# Altium schematic symbol library STM32_F4VX_M.SchLib: 8 symbols
Pins are listed as number, name and electrical type; pins without a type are passive.

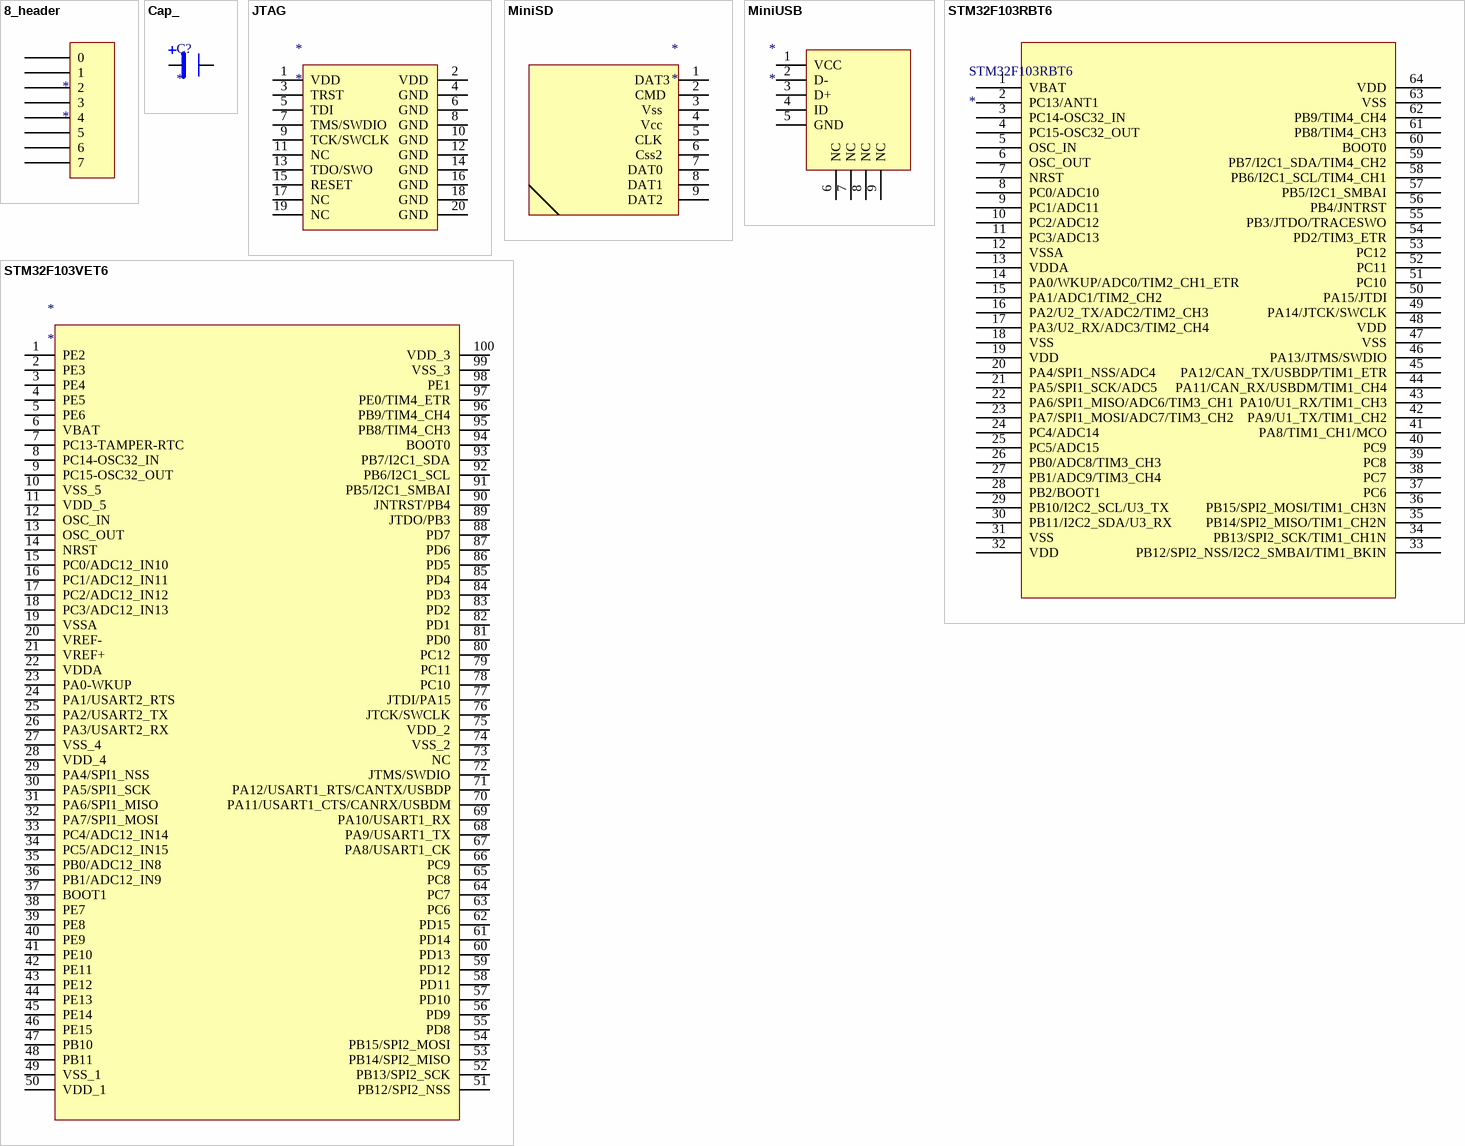
[diagram p0: symbols 8_header to STM32F103VET6]

## 8_header
designator *
footprint HDR1X8 (Connector; Header; 8 Position)
pins: 0, 1, 2, 3, 4, 5, 6, 7

## Cap_
designator C?
footprint RC0603
pins: 1, 2

## JTAG
designator *
pins: 1 VDD, 2 VDD, 3 TRST, 4 GND, 5 TDI, 6 GND, 7 TMS/SWDIO, 8 GND, 9 TCK/SWCLK, 10 GND, 11 NC, 12 GND, 13 TDO/SWO, 14 GND, 15 RESET, 16 GND, 17 NC, 18 GND, 19 NC, 20 GND

## MiniSD
designator *
pins: 1 DAT3, 2 CMD , 3 Vss  , 4 Vcc  , 5 CLK  , 6 Css2  , 7 DAT0  , 8 DAT1  , 9 DAT2  

## MiniUSB
designator *
pins: 1 VCC, 2 D-, 3 D+, 4 ID, 5 GND, 6 NC, 7 NC, 8 NC, 9 NC

## STM32F103RBT6
designator STM32F103RBT6
pins: 1 VBAT, 2 PC13/ANT1, 3 PC14-OSC32_IN, 4 PC15-OSC32_OUT, 5 OSC_IN, 6 OSC_OUT, 7 NRST, 8 PC0/ADC10, 9 PC1/ADC11, 10 PC2/ADC12, 11 PC3/ADC13, 12 VSSA, 13 VDDA, 14 PA0/WKUP/ADC0/TIM2_CH1_ETR, 15 PA1/ADC1/TIM2_CH2, 16 PA2/U2_TX/ADC2/TIM2_CH3, 17 PA3/U2_RX/ADC3/TIM2_CH4, 18 VSS, 19 VDD, 20 PA4/SPI1_NSS/ADC4, 21 PA5/SPI1_SCK/ADC5, 22 PA6/SPI1_MISO/ADC6/TIM3_CH1, 23 PA7/SPI1_MOSI/ADC7/TIM3_CH2, 24 PC4/ADC14, 25 PC5/ADC15, 26 PB0/ADC8/TIM3_CH3, 27 PB1/ADC9/TIM3_CH4, 28 PB2/BOOT1, 29 PB10/I2C2_SCL/U3_TX, 30 PB11/I2C2_SDA/U3_RX, 31 VSS, 32 VDD, 33 PB12/SPI2_NSS/I2C2_SMBAI/TIM1_BKIN, 34 PB13/SPI2_SCK/TIM1_CH1N, 35 PB14/SPI2_MISO/TIM1_CH2N, 36 PB15/SPI2_MOSI/TIM1_CH3N, 37 PC6, 38 PC7, 39 PC8, 40 PC9, 41 PA8/TIM1_CH1/MCO, 42 PA9/U1_TX/TIM1_CH2, 43 PA10/U1_RX/TIM1_CH3, 44 PA11/CAN_RX/USBDM/TIM1_CH4, 45 PA12/CAN_TX/USBDP/TIM1_ETR, 46 PA13/JTMS/SWDIO, 47 VSS, 48 VDD, 49 PA14/JTCK/SWCLK, 50 PA15/JTDI, 51 PC10, 52 PC11, 53 PC12, 54 PD2/TIM3_ETR, 55 PB3/JTDO/TRACESWO, 56 PB4/JNTRST, 57 PB5/I2C1_SMBAI, 58 PB6/I2C1_SCL/TIM4_CH1, 59 PB7/I2C1_SDA/TIM4_CH2, 60 BOOT0, 61 PB8/TIM4_CH3, 62 PB9/TIM4_CH4, 63 VSS, 64 VDD

## STM32F103VET6
designator *
pins: 1 PE2, 2 PE3, 3 PE4, 4 PE5, 5 PE6, 6 VBAT, 7 PC13-TAMPER-RTC, 8 PC14-OSC32_IN, 9 PC15-OSC32_OUT, 10 VSS_5, 11 VDD_5, 12 OSC_IN, 13 OSC_OUT, 14 NRST, 15 PC0/ADC12_IN10, 16 PC1/ADC12_IN11, 17 PC2/ADC12_IN12, 18 PC3/ADC12_IN13, 19 VSSA, 20 VREF-, 21 VREF+, 22 VDDA, 23 PA0-WKUP, 24 PA1/USART2_RTS, 25 PA2/USART2_TX, 26 PA3/USART2_RX, 27 VSS_4, 28 VDD_4, 29 PA4/SPI1_NSS, 30 PA5/SPI1_SCK, 31 PA6/SPI1_MISO, 32 PA7/SPI1_MOSI, 33 PC4/ADC12_IN14, 34 PC5/ADC12_IN15, 35 PB0/ADC12_IN8, 36 PB1/ADC12_IN9, 37 BOOT1, 38 PE7, 39 PE8, 40 PE9, 41 PE10, 42 PE11, 43 PE12, 44 PE13, 45 PE14, 46 PE15, 47 PB10, 48 PB11, 49 VSS_1, 50 VDD_1, 51 PB12/SPI2_NSS, 52 PB13/SPI2_SCK, 53 PB14/SPI2_MISO, 54 PB15/SPI2_MOSI, 55 PD8, 56 PD9, 57 PD10, 58 PD11, 59 PD12, 60 PD13, 61 PD14, 62 PD15, 63 PC6, 64 PC7, 65 PC8, 66 PC9, 67 PA8/USART1_CK, 68 PA9/USART1_TX, 69 PA10/USART1_RX, 70 PA11/USART1_CTS/CANRX/USBDM, 71 PA12/USART1_RTS/CANTX/USBDP, 72 JTMS/SWDIO, 73 NC, 74 VSS_2, 75 VDD_2, 76 JTCK/SWCLK, 77 JTDI/PA15, 78 PC10, 79 PC11, 80 PC12, 81 PD0, 82 PD1, 83 PD2, 84 PD3, 85 PD4, 86 PD5, 87 PD6, 88 PD7, 89 JTDO/PB3, 90 JNTRST/PB4, 91 PB5/I2C1_SMBAI, 92 PB6/I2C1_SCL, 93 PB7/I2C1_SDA, 94 BOOT0, 95 PB8/TIM4_CH3, 96 PB9/TIM4_CH4, 97 PE0/TIM4_ETR, 98 PE1, 99 VSS_3, 100 VDD_3

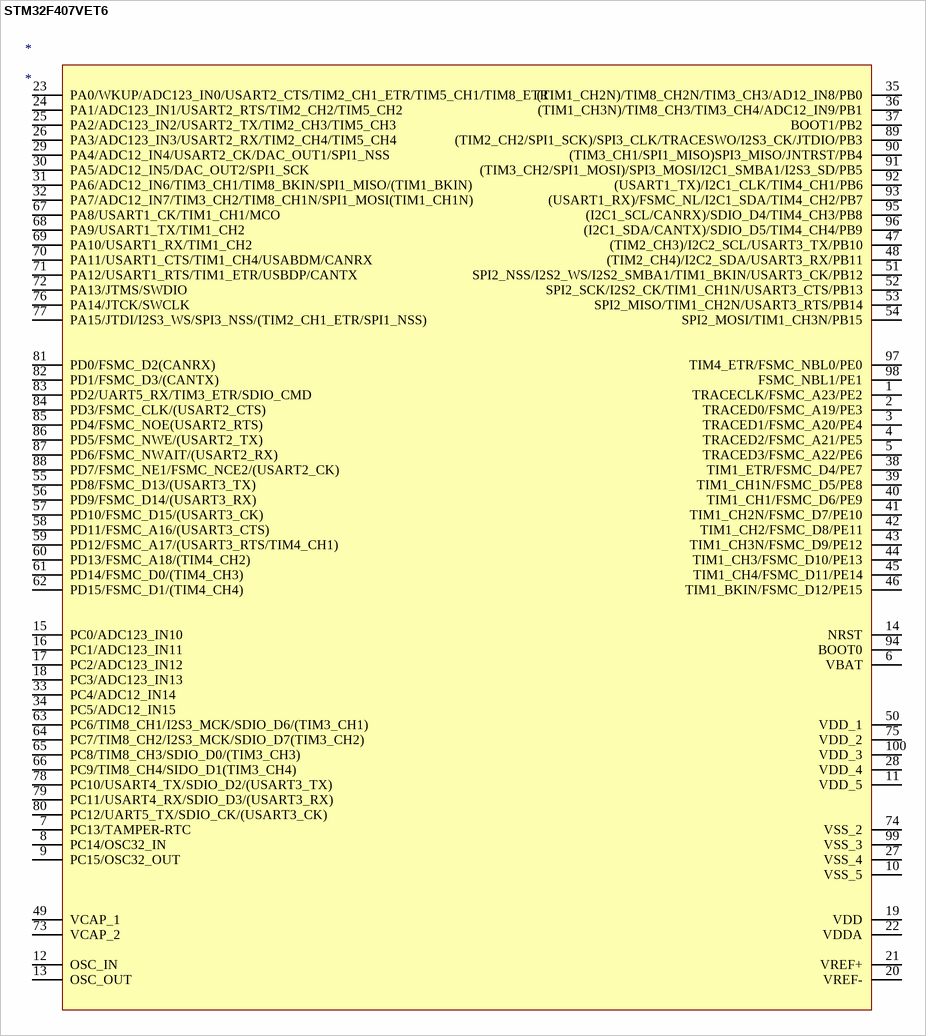
[diagram p1: symbol STM32F407VET6]

## STM32F407VET6
designator *
pins: 1 TRACECLK/FSMC_A23/PE2, 2 TRACED0/FSMC_A19/PE3, 3 TRACED1/FSMC_A20/PE4, 4 TRACED2/FSMC_A21/PE5, 5 TRACED3/FSMC_A22/PE6, 6 VBAT, 7 PC13/TAMPER-RTC, 8 PC14/OSC32_IN, 9 PC15/OSC32_OUT, 10 VSS_5, 11 VDD_5, 12 OSC_IN, 13 OSC_OUT, 14 NRST, 15 PC0/ADC123_IN10, 16 PC1/ADC123_IN11, 17 PC2/ADC123_IN12, 18 PC3/ADC123_IN13, 19 VDD, 20 VREF-, 21 VREF+, 22 VDDA, 23 PA0/WKUP/ADC123_IN0/USART2_CTS/TIM2_CH1_ETR/TIM5_CH1/TIM8_ETR, 24 PA1/ADC123_IN1/USART2_RTS/TIM2_CH2/TIM5_CH2, 25 PA2/ADC123_IN2/USART2_TX/TIM2_CH3/TIM5_CH3, 26 PA3/ADC123_IN3/USART2_RX/TIM2_CH4/TIM5_CH4, 27 VSS_4, 28 VDD_4, 29 PA4/ADC12_IN4/USART2_CK/DAC_OUT1/SPI1_NSS, 30 PA5/ADC12_IN5/DAC_OUT2/SPI1_SCK, 31 PA6/ADC12_IN6/TIM3_CH1/TIM8_BKIN/SPI1_MISO/(TIM1_BKIN), 32 PA7/ADC12_IN7/TIM3_CH2/TIM8_CH1N/SPI1_MOSI(TIM1_CH1N), 33 PC4/ADC12_IN14, 34 PC5/ADC12_IN15, 35 (TIM1_CH2N)/TIM8_CH2N/TIM3_CH3/AD12_IN8/PB0, 36 (TIM1_CH3N)/TIM8_CH3/TIM3_CH4/ADC12_IN9/PB1, 37 BOOT1/PB2, 38 TIM1_ETR/FSMC_D4/PE7, 39 TIM1_CH1N/FSMC_D5/PE8, 40 TIM1_CH1/FSMC_D6/PE9, 41 TIM1_CH2N/FSMC_D7/PE10, 42 TIM1_CH2/FSMC_D8/PE11, 43 TIM1_CH3N/FSMC_D9/PE12, 44 TIM1_CH3/FSMC_D10/PE13, 45 TIM1_CH4/FSMC_D11/PE14, 46 TIM1_BKIN/FSMC_D12/PE15, 47 (TIM2_CH3)/I2C2_SCL/USART3_TX/PB10, 48 (TIM2_CH4)/I2C2_SDA/USART3_RX/PB11, 49 VCAP_1, 50 VDD_1, 51 SPI2_NSS/I2S2_WS/I2S2_SMBA1/TIM1_BKIN/USART3_CK/PB12, 52 SPI2_SCK/I2S2_CK/TIM1_CH1N/USART3_CTS/PB13, 53 SPI2_MISO/TIM1_CH2N/USART3_RTS/PB14, 54 SPI2_MOSI/TIM1_CH3N/PB15, 55 PD8/FSMC_D13/(USART3_TX), 56 PD9/FSMC_D14/(USART3_RX), 57 PD10/FSMC_D15/(USART3_CK), 58 PD11/FSMC_A16/(USART3_CTS), 59 PD12/FSMC_A17/(USART3_RTS/TIM4_CH1), 60 PD13/FSMC_A18/(TIM4_CH2), 61 PD14/FSMC_D0/(TIM4_CH3), 62 PD15/FSMC_D1/(TIM4_CH4), 63 PC6/TIM8_CH1/I2S3_MCK/SDIO_D6/(TIM3_CH1), 64 PC7/TIM8_CH2/I2S3_MCK/SDIO_D7(TIM3_CH2), 65 PC8/TIM8_CH3/SDIO_D0/(TIM3_CH3), 66 PC9/TIM8_CH4/SIDO_D1(TIM3_CH4), 67 PA8/USART1_CK/TIM1_CH1/MCO, 68 PA9/USART1_TX/TIM1_CH2, 69 PA10/USART1_RX/TIM1_CH2, 70 PA11/USART1_CTS/TIM1_CH4/USABDM/CANRX, 71 PA12/USART1_RTS/TIM1_ETR/USBDP/CANTX, 72 PA13/JTMS/SWDIO, 73 VCAP_2, 74 VSS_2, 75 VDD_2, 76 PA14/JTCK/SWCLK, 77 PA15/JTDI/I2S3_WS/SPI3_NSS/(TIM2_CH1_ETR/SPI1_NSS), 78 PC10/USART4_TX/SDIO_D2/(USART3_TX), 79 PC11/USART4_RX/SDIO_D3/(USART3_RX), 80 PC12/UART5_TX/SDIO_CK/(USART3_CK), 81 PD0/FSMC_D2(CANRX), 82 PD1/FSMC_D3/(CANTX), 83 PD2/UART5_RX/TIM3_ETR/SDIO_CMD, 84 PD3/FSMC_CLK/(USART2_CTS), 85 PD4/FSMC_NOE(USART2_RTS), 86 PD5/FSMC_NWE/(USART2_TX), 87 PD6/FSMC_NWAIT/(USART2_RX), 88 PD7/FSMC_NE1/FSMC_NCE2/(USART2_CK), 89 (TIM2_CH2/SPI1_SCK)/SPI3_CLK/TRACESWO/I2S3_CK/JTDIO/PB3, 90 (TIM3_CH1/SPI1_MISO)SPI3_MISO/JNTRST/PB4, 91 (TIM3_CH2/SPI1_MOSI)/SPI3_MOSI/I2C1_SMBA1/I2S3_SD/PB5, 92 (USART1_TX)/I2C1_CLK/TIM4_CH1/PB6, 93 (USART1_RX)/FSMC_NL/I2C1_SDA/TIM4_CH2/PB7, 94 BOOT0, 95 (I2C1_SCL/CANRX)/SDIO_D4/TIM4_CH3/PB8, 96 (I2C1_SDA/CANTX)/SDIO_D5/TIM4_CH4/PB9, 97 TIM4_ETR/FSMC_NBL0/PE0, 98 FSMC_NBL1/PE1, 99 VSS_3, 100 VDD_3